# EAGLE library part LTC4366 (library Neel)
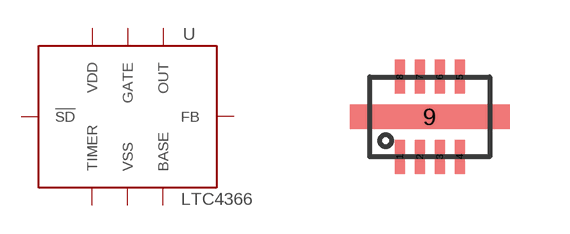
[diagram p78: symbol with the pads of DFN8-3X2; footprint DFN8-3X2]

Designator prefix -

## LTC4366  [DFN8-3X2]
1  VSS
2  TIMER
3  !SD
4  VDD
5  GATE
6  OUT
7  FB
8  BASE
9  VSS

## Footprint DFN8-3X2 (pad centres in mm)
smd 0.25 x 0.85: 1 -0.75,-1; 2 -0.25,-1; 3 0.25,-1; 4 0.75,-1; 5 0.75,1; 6 0.25,1; 7 -0.25,1; 8 -0.75,1
smd 4 x 0.61: 9 0,0